# Altium footprint library 662004236022.PcbLib: 1 footprints
Each footprint in its own frame and in the unit in brackets; x right, y up, seen from the top. Pads: shape width x height; smd on the part's side, far side on the other; paste and mask are expansions set on the pad; w line width, h text height; cw(c..) or ccw(c..) is an arc to the next point about the centre after c.
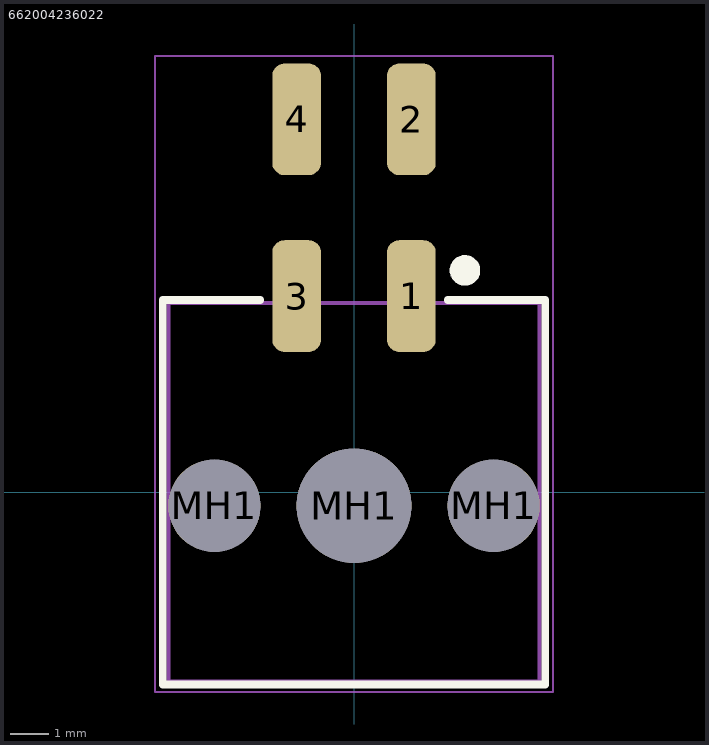
[diagram p0: the footprint, top view; thin cyan lines are the x and y axes]

## 662004236022 [mm]
pads (7):
  rrect50% 1.27x2.92 smd: 1(1.5,5.13) 2(1.5,9.75) 3(-1.5,5.13) 4(-1.5,9.75)
  round 2.41 hole 2.41 unplated: MH1(-3.65,-0.35) MH1(3.65,-0.35)
  round 3 hole 3 unplated: MH1(0,-0.35)
Top Overlay:
  circle w0.4: c2.9,5.8 r0.2
  lines w0.2: -2.45,5.025 -5,5.025 -5,-5.025 5,-5.025 5,5.025 2.45,5.025
Top Assembly:
  lines w0.1: -4.85,-4.95 4.85,-4.95 4.85,4.95 -4.85,4.95 -4.85,-4.95
Top Courtyard:
  lines w0.05: -0.5,0 0.5,0 ; 0,-0.5 0,0.5 ; -5.2,-5.225 5.2,-5.225 5.2,11.41 -5.2,11.41 -5.2,-5.225
3D body "662004236022.stp": height 8.79, standoff -3.17, extent -4.85,-4.95 4.85,10.95